# Altium schematic symbol library Components - 08.09.24 - 22.52.SchLib: 1 symbol
Pins are listed as number, name and electrical type; pins without a type are passive.

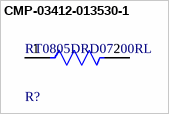
[diagram p0: symbol CMP-03412-013530-1]

## CMP-03412-013530-1
designator R?, comment RT0805DRD07200RL
RES SMD 200 OHM 0.5% 1/8W 0805; Manufacturer: Yageo; Power Rating: 0.125W; Temperature Coefficient: 25 ppm/°C; Voltage Rating: 150V; Resistance: 200Ω; Tolerance: 0.01; Value: 200Ω; Manufacturer Part Number: RT0805DRD07200RL; Automotive: No; Temperature Range High: +155°C; Temperature: -55°C to +155°C; Device Class L3: Chip SMD Resistors; Composition: Thin Film; Lead Free: Yes; Package: RT0805; Temperature Range Low: -55°C; Height: 0.6mm; Category: Res; ComponentLink2URL: http://www.yageo.com/documents/recent/PYu-RT_1-to-0.01_RoHS_L_9.pdf; Device Class L2: Resistors; Series: RT; Footprint Url: http://www.yageo.com/exep/pages/download/literatures/PYu-R_Mount_10.pdf; Digikey Description: RES SMD 200 OHM 0.5% 1/8W 0805; RoHS: TRUE; Octopart: https://octopart.com/rt0805drd07200rl-yageo-1186132; ComponentLink2Description: Datasheet; Device Class L1: Passive Components; Ipc Land Pattern Name: RESC200125X50
footprint FP-RT0805-MFG
footprint FP-RT0805-IPC_A
footprint FP-RT0805-IPC_B
footprint FP-RT0805-IPC_C
pins: 1, 2